# Altium schematic symbol library Control point.SchLib: 1 symbol
Pins are listed as number, name and electrical type; pins without a type are passive.

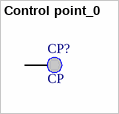
[diagram p0: symbol Control point_0]

## Control point_0
designator CP?, comment CP
Control point
pins: 1